# Altium footprint library ESP32-WROOM-32.PcbLib: 1 footprints
Each footprint in its own frame and in the unit in brackets; x right, y up, seen from the top. Pads: shape width x height; smd on the part's side, far side on the other; paste and mask are expansions set on the pad; w line width, h text height; cw(c..) or ccw(c..) is an arc to the next point about the centre after c.
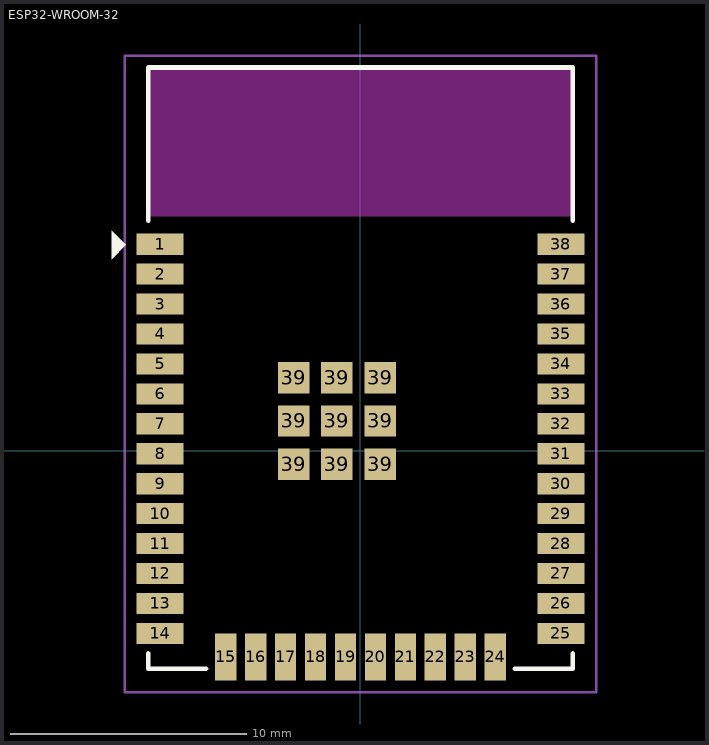
[diagram p0: the footprint, top view; thin cyan lines are the x and y axes]

## ESP32-WROOM-32 [mm]
height 3.2
pads (47):
  rect 2x0.9 smd: 1(-8.5,8.755) 2(-8.5,7.485) 3(-8.5,6.215) 4(-8.5,4.945) 5(-8.5,3.675) 6(-8.5,2.405) 7(-8.5,1.135) 8(-8.5,-0.135) 9(-8.5,-1.405) 10(-8.5,-2.675) 11(-8.5,-3.945) 12(-8.5,-5.215) 13(-8.5,-6.485) 14(-8.5,-7.755) 25(8.5,-7.755) 26(8.5,-6.485) 27(8.5,-5.215) 28(8.5,-3.945) 29(8.5,-2.675) 30(8.5,-1.405) 31(8.5,-0.135) 32(8.5,1.135) 33(8.5,2.405) 34(8.5,3.675) 35(8.5,4.945) 36(8.5,6.215) 37(8.5,7.485) 38(8.5,8.755)
  rect 0.9x2 smd: 15(-5.715,-8.755) 16(-4.445,-8.755) 17(-3.175,-8.755) 18(-1.905,-8.755) 19(-0.635,-8.755) 20(0.635,-8.755) 21(1.905,-8.755) 22(3.175,-8.755) 23(4.445,-8.755) 24(5.715,-8.755)
  rect 1.33x1.33 smd: 39(-2.835,-0.58) 39(-2.835,1.255) 39(-2.835,3.09) 39(-1,-0.58) 39(-1,1.255) 39(-1,3.09) 39(0.835,-0.58) 39(0.835,1.255) 39(0.835,3.09)
Top Overlay:
  region: -10.55,9.325 -9.95,8.725 -10.55,8.125
  lines w0.2: -9,-8.605 -9,-9.255 -6.55,-9.255 ; -9,9.745 -9,16.245 9,16.245 9,9.745 ; 6.55,-9.255 9,-9.255 9,-8.605
Keep-Out Layer:
  region: 9,9.945 -9,9.945 -9,16.245 9,16.245
  region: 9,9.945 -9,9.945 -9,16.245 9,16.245
Mechanical 1:
  text "ANTENNA" at -4.4,12.575 h1.78
Top Courtyard:
  lines w0.1: -10,-10.25 -10,16.745 10,16.745 10,-10.25 -6.15,-10.25 -10,-10.25
3D body "step_temp.STEP": height 3.2, standoff 0, extent -9,-9.255 9,16.245